# Altium schematic symbol library 8805.SchLib: 2 symbols
Pins are listed as number, name and electrical type; pins without a type are passive.

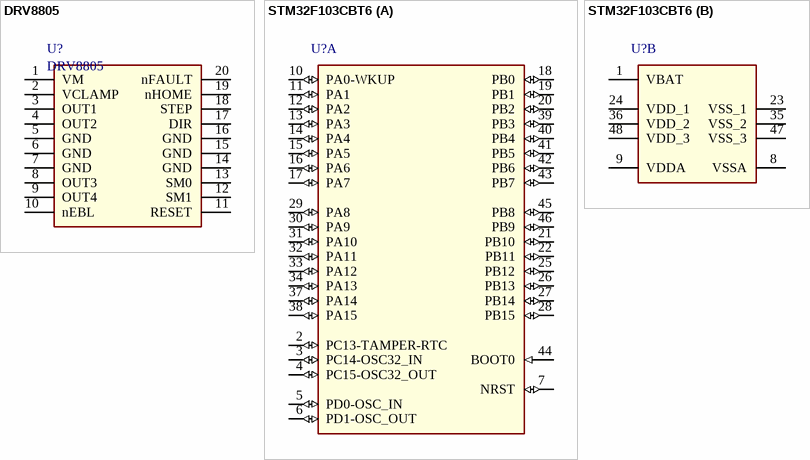
[diagram p0: symbols DRV8805 to STM32F103CBT6]

## DRV8805
designator U?
pins: 1 VM, 2 VCLAMP, 3 OUT1, 4 OUT2, 5 GND, 6 GND, 7 GND, 8 OUT3, 9 OUT4, 10 nEBL, 11 RESET, 12 SM1, 13 SM0, 14 GND, 15 GND, 16 GND, 17 DIR, 18 STEP, 19 nHOME, 20 nFAULT

## STM32F103CBT6
designator U?
ARM Cortex-M3 32-bit MCU, 128 KB Flash, 20 KB Internal RAM, 37 I/Os, 48-pin LQFP, -40 to 85 degC, Tray; PartNumber: STM32F103CBT6; A/D Converter: 2x12-bit (10 Channel); FLASH Size (Prog) (kB): 128; I/Os (High Current): 37; Internal RAM Size (kB): 20; Operating Frequency(F) (Processor speed) (MHz): 72; Supply Voltage(Vcc) min (V): 2; DatasheetVersion: Rev. 16; PackageVersion: Rev. 6, 06/2013; PackageReference: LQFP48; PackageDescription: 48-Pin Low Profile Quad Flat Package, 7 x 7 mm Body, 0.5 mm Pitch; Supplier 1: Digi-Key; Supplier Part Number 1: 497-6288-ND; Supplier 2: Farnell; Supplier Part Number 2: 1606327; Supplier 3: Newark; Supplier Part Number 3: 11N8296; Supplier 4: Newark; Supplier Part Number 4: 57P1214; Supplier 5: Mouser; Supplier Part Number 5: 511-STM32F103CBT6; Core: ARM Cortex-M3; Packing: Tray; Mounting Technology: Surface Mount; ComponentLink1Description: Manufacturer URL; ComponentLink1URL: http://www.st.com/web/en/home.html; ComponentLink2Description: Datasheet; ComponentLink2URL: http://www.st.com/st-web-ui/static/active/en/resource/technical/document/datasheet/CD00161566.pdf; ComponentLink3Description: Package Specification; ComponentLink3URL: http://www.st.com/st-web-ui/static/active/en/resource/technical/document/datasheet/DM00058181.pdf
footprint STM-LQFP48_N (QFP, 48-Leads, Body 7x7mm, Pitch 0.5mm, IPC Medium Density)
footprint STM-LQFP48_L (QFP, 48-Leads, Body 7x7mm, Pitch 0.5mm, IPC High Density)
footprint STM-LQFP48_M (QFP, 48-Leads, Body 7x7mm, Pitch 0.5mm, IPC Low Density)
footprint STM-LQFP48_M (QFP, 48-Leads, Body 7x7mm, Pitch 0.5mm, IPC Low Density)
part A pins: 2 PC13-TAMPER-RTC (io) "PC13-TAMPER-RTC/PC13/TAMPER-RTC", 3 PC14-OSC32_IN (io) "PC14-OSC32_IN/PC14/OSC32_IN", 4 PC15-OSC32_OUT (io) "PC15-OSC32_OUT/PC15/OSC32_OUT", 5 PD0-OSC_IN (io) "PD0/OSC_IN", 6 PD1-OSC_OUT (io) "PD1/OSC_OUT", 7 NRST (io), 10 PA0-WKUP (io) "PA0-WKUP/PA0/WKUP/USART2_CTS/ADC12_IN0/TIM2_CH1_ETR", 11 PA1 (io) "PA1/USART2_RTS/ADC12_IN1/TIM2_CH2", 12 PA2 (io) "PA2/USART2_TX/ADC12_IN2/TIM2_CH3", 13 PA3 (io) "PA3/USART2_RX/ADC12_IN3/TIM2_CH4", 14 PA4 (io) "PA4/SPI1_NSS/USART2_CK/ADC12_IN4", 15 PA5 (io) "PA5/SPI1_SCK/ADC12_IN5", 16 PA6 (io) "PA6/SPI1_MISO/ADC12_IN6/TIM3_CH1/TIM1_BKIN", 17 PA7 (io) "PA7/SPI1_MOSI/ADC12_IN7/TIM3_CH2/TIM1_CH1N", 18 PB0 (io) "PB0/ADC12_IN8/TIM3_CH3/TIM1_CH2N", 19 PB1 (io) "PB1/ADC12_IN9/TIM3_CH4/TIM1_CH3N", 20 PB2 (io) "PB2/BOOT1", 21 PB10 (io) "PB10/I2C2_SCL/USART3_TX/TIM2_CH3", 22 PB11 (io) "PB11/I2C2_SDA/USART3_RX/TIM2_CH4", 25 PB12 (io) "PB12/SPI2_NSS/I2C2_SMBAl/USART3_CK/TIM1_BKIN", 26 PB13 (io) "PB13/SPI2_SCK/USART3_CTS/TIM1_CH1N", 27 PB14 (io) "PB14/SPI2_MISO/USART3_RTS/TIM1_CH2N", 28 PB15 (io) "PB15/SPI2_MOSI/TIM1_CH3N", 29 PA8 (io) "PA8/USART1_CK/TIM1_CH1/MCO", 30 PA9 (io) "PA9/USART1_TX/TIM1_CH2", 31 PA10 (io) "PA10/USART1_RX/TIM1_CH3", 32 PA11 (io) "PA11/USART1_CTS/CANRX/USBDM/TIM1_CH4", 33 PA12 (io) "PA12/USART1_RTS/CANTX/USBDP/TIM1_ETR", 34 PA13 (io) "PA13/JTMS/SWDIO", 37 PA14 (io) "PA14/JTCK/SWCLK", 38 PA15 (io) "PA15/JTDI/TIM2_CH1_ETR/SPI1_NSS", 39 PB3 (io) "PB3/JTDO/TIM2_CH2/TRACESWO/SPI1_SCK", 40 PB4 (io) "PB4/NJTRST/TIM3_CH1/SPI1_MISO", 41 PB5 (io) "PB5/I2C1_SMBAI/TIM3_CH2/SPI1_MOSI", 42 PB6 (io) "PB6/I2C1_SCL/TIM4_CH1/USART1_TX", 43 PB7 (io) "PB7/I2C1_SDA/TIM4_CH2/USART1_RX", 44 BOOT0 (in), 45 PB8 (io) "PB8/TIM4_CH3/I2C1_SCL/CANRX", 46 PB9 (io) "PB9/TIM4_CH4/I2C1_SDA/CANTX"
part B pins: 1 VBAT (power), 8 VSSA (power), 9 VDDA (power), 23 VSS_1 (power), 24 VDD_1 (power), 35 VSS_2 (power), 36 VDD_2 (power), 47 VSS_3 (power), 48 VDD_3 (power)